# EAGLE library part PHOENIX_3POS (library phoenixConn_3POS)
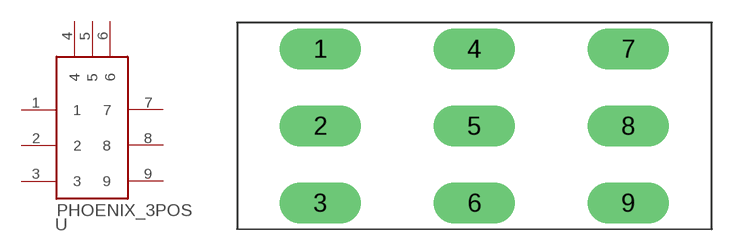
[diagram p0: symbol with the pads of PHOENIX_3POS; footprint PHOENIX_3POS]

Designator prefix -

## PHOENIX_3POS  [PHOENIX_3POS]
1  1
2  2
3  3
4  4
5  5
6  6
7  7
8  8
9  9

## Footprint PHOENIX_3POS (pad centres in mm)
drill 1.8 long: 1 5.48,11.88; 2 5.48,6.8; 3 5.48,1.72; 4 15.64,11.88; 5 15.64,6.8; 6 15.64,1.72; 7 25.8,11.88; 8 25.8,6.8; 9 25.8,1.72